# EAGLE library part AD5280 (library LMV358)
Single +15 V/±5 V, 256-Position, I2C-Compatible Digital Potentiometer Source: http://www.analog.com/static/imported-files/data_sheets/AD5280_5282.pdf
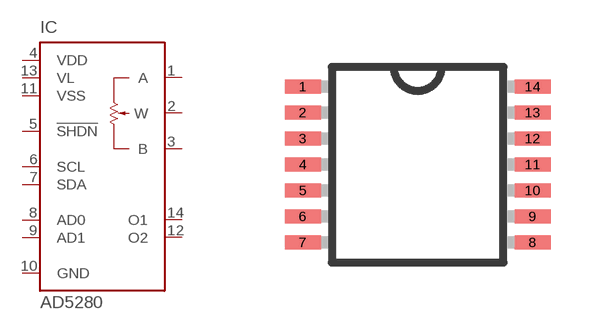
[diagram p145: symbol with the pads of TSSOP14; footprint TSSOP14]

Designator prefix IC

## AD5280 (MF: ALTERA CORPORATION; MPN: AD5280BRUZ20; OC_FARNELL: 1464325; OC_NEWARK: 59K3840)  [TSSOP14]
1  A  pas
2  W  pas
3  B  pas
4  VDD  pwr
5  !SHDN  in
6  SCL  in
7  SDA
8  AD0  in
9  AD1  in
10  GND  pwr
11  VSS  pwr
12  O2  out
13  VL  pwr
14  O1  out

## Footprint TSSOP14 (pad centres in mm)
14-Lead Thin Shrink Small Outline Package [TSSOP] Source: Analog Devices .. 780914713ADD8704_0.pdf
smd 0.9 x 0.35: 1 -2.875,1.95; 2 -2.875,1.3; 3 -2.875,0.65; 4 -2.875,0; 5 -2.875,-0.65; 6 -2.875,-1.3; 7 -2.875,-1.95; 8 2.875,-1.95; 9 2.875,-1.3; 10 2.875,-0.65; 11 2.875,0; 12 2.875,0.65; 13 2.875,1.3; 14 2.875,1.95